# Altium schematic symbol library TG21_TX_Ma tran phimPrjPcb.SCHLIB: 13 symbols
Pins are listed as number, name and electrical type; pins without a type are passive.

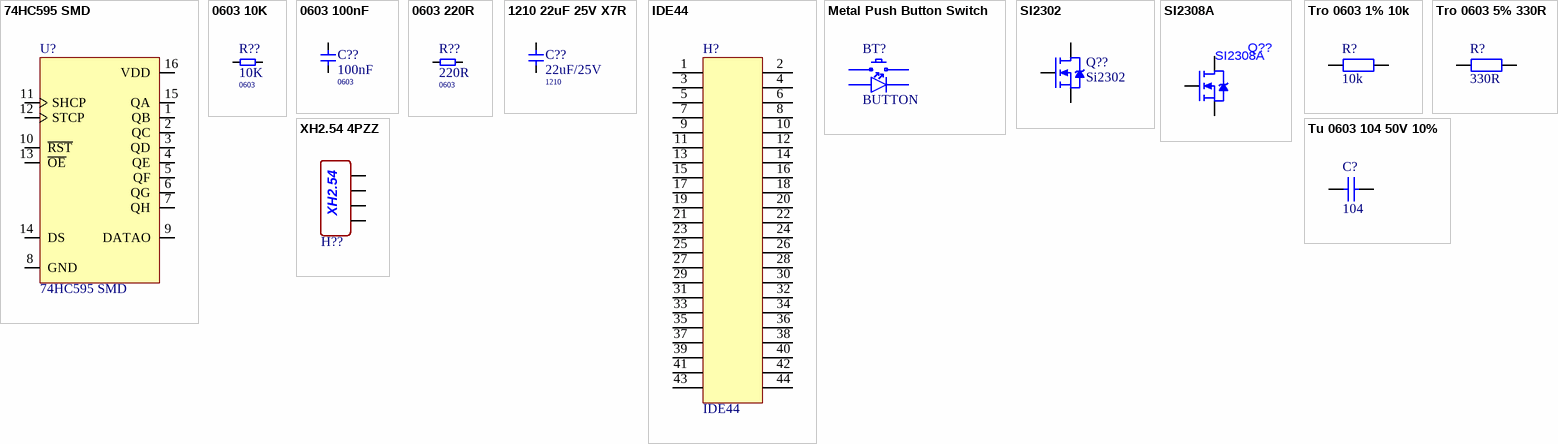
[diagram p0: symbols 74HC595 SMD to XH2.54 4PZZ]

## 74HC595 SMD
designator U?
2V~6V 1 100ns@5V,50pF Serial-to-Serial or Parallel SOP-16 Shift Registers RoHS; Manufacturer: GR; Key Attributes: 8-bit CMOS shift register; Unit: Pcs; Assembly: SMT; ComponentLink1Description: Link; ComponentLink1URL: https://www.lcsc.com/product-detail/C18164493.html?s_z=n_q_x_74hc595&spm=wm.ssy.em.0.tz&lcsc_vid=Q1VfX1ReRFFaUFJSRgIIUV0CFFgIBFJfT1hdVlwEEVkxVlNRT1ddX1RVRFFcVjsOAxUeFF5JWBYZEEoKFBINSQcJGk4%3D; Mfr. Part #: 74HC595; LCSC Part #: C18164493; Package: SOP-16; type: IC; categoty: 74HC595
footprint SOP 16 (SOIC, 16-Leads, Body 9.90x3.91mm, Pitch 1.27mm, IPC Medium Density)
pins: 1 QB, 2 QC, 3 QD, 4 QE, 5 QF, 6 QG, 7 QH, 8 GND, 9 DATAO, 10 ~{RST}, 11 SHCP, 12 STCP, 13 ~{OE}, 14 DS, 15 QA, 16 VDD

## 0603 10K
designator R??, comment 10K  Package: 0603
100mW 10kΩ 75V Thick Film Resistor ±1% ±100ppm/℃ 0603 Chip Resistor - Surface Mount RoHS; Manufacturer: VISHAY; Mfr. Part #: CRCW060310K0FKEA; LCSC Part #: C844918; ComponentLink1Description: Link; ComponentLink1URL: https://www.lcsc.com/product-detail/C844918.html?s_z=n_10K
footprint 0603 Resistors
pins: 1, 2

## 0603 100nF
designator C??, comment 100nF  Package: 0603
100nF ±10% 50V Ceramic Capacitor X7R 0603; Manufacturer: YAGEO; Mfr. Part #: CC0603KRX7R9BB104; LCSC Part #: C14663; ComponentLink1Description: Link; ComponentLink1URL: https://www.lcsc.com/product-detail/C14663.html?s_z=n_0603%2520100nF
footprint 0603 MLCC
pins: 1, 2

## 0603 220R
designator R??, comment 220R  Package: 0603
100mW 220Ω 75V Thick Film Resistor ±1% ±100ppm/℃ 0603 Chip Resistor - Surface Mount RoHS; Mfr. Part #: CRCW0603220RFKEAHP; Manufacturer: VISHAY; LCSC Part #: C313707; ComponentLink1Description: Link; ComponentLink1URL: https://www.lcsc.com/product-detail/C313707.html?s_z=n_0603%2520220R
footprint 0603 MLCC
pins: 1, 2

## 1210 22uF 25V X7R
designator C??, comment 22uF/25V  Package: 1210
22uF ±10% 25V Ceramic Capacitor X7R 1210; Manufacturer: Samsung Electro-Mechanics; Mfr. Part #: CL32B226KAJNNNE; LCSC Part #: C309062; ComponentLink1Description: Link; ComponentLink1URL: https://www.lcsc.com/product-detail/C309062.html?s_z=n_22uF%25201210
footprint 1210 CAPACITOR
pins: 1, 2

## IDE44
designator H?
footprint IDE
pins: 1, 2, 3, 4, 5, 6, 7, 8, 9, 10, 11, 12, 13, 14, 15, 16, 17, 18, 19, 20, 21, 22, 23, 24, 25, 26, 27, 28, 29, 30, 31, 32, 33, 34, 35, 36, 37, 38, 39, 40, 41, 42, 43, 44

## Metal Push Button Switch
designator BT?, comment BUTTON
ComponentLink1Description: Link
footprint Metal Push Button Switch
pins: 1, 2, 3, 4

## SI2302
designator Q??, comment Si2302
N-Channel 20V 2.9A 0.55W Surface Mount SOT-23; Manufacturer: VISHAY; Mfr. Part #: Si2302CDS-T1-GE3; LCSC Part #: C10488; Package: SOT-23; ComponentLink1Description: LCSC Link; ComponentLink1URL: https://www.lcsc.com/product-detail/C10488.html?s_z=n_si2302
footprint SOT23_HVT
pins: 1 G, 2 S, 3 D

## SI2308A
designator Q??
N-Channel 60V 3A 1.25W Surface Mount SOT-23; Manufacturer: UMW; Key Attributes: MOSFET N-CH 60V 3A SOT-23; type: Mosfet; Unit: Pcs; Assembly: SMT; ComponentLink1Description: Link; ComponentLink1URL: https://www.lcsc.com/product-detail/C347491.html?s_z=n_q_si2308&spm=wm.fly.bg.1.xh&lcsc_vid=Q1VfX1ReRFFaUFJSRgIIUV0CFFgIBFJfT1hdVlwEEVkxVlNRT1daUlxeQlReVzsOAxUeFF5JWBYZEEoKFBINSQcJGk4NBhADEA4cHktXQFFADxALGw%3D%3D; Mfr. Part #: SI2308A; LCSC Part #: C347491; Package: SOT-23; Category: SI2308A
footprint SOT23_HVT
pins: 1 G, 2 S, 3 D

## Tro 0603 1% 10k
designator R?, comment 10k
Dán; Don_Vi: Con; So_Chan: 2; Ten_Linh_Kien: Trở 0603 1% 10k; Ma_Hang: MH006333; Chung_Loai: Dán; Kieu_Chan: *
footprint tro smd 0603 (Chip Capacitor, 2-Leads, Body 1,60x0,80mm, IPC Medium Density)
pins: 1, 2

## Tro 0603 5% 330R
designator R?, comment 330R
Dán; Don_Vi: Con; Ma_Hang: MH006910; So_Chan: 2; Ten_Linh_Kien: Trở 0603 5% 330R; Chung_Loai: Dán; Kieu_Chan: *
footprint tro smd 0603 (Chip Capacitor, 2-Leads, Body 1,60x0,80mm, IPC Medium Density)
footprint RES-0603-2
pins: 1, 2

## Tu 0603 104 50V 10%
designator C?, comment 104
Dán; Don_Vi: Con; So_Chan: 2; Ten_Linh_Kien: Tụ 0603 104-100nF 10% 50V; Ma_Hang: MH004568; Chung_Loai: Dán; Kieu_Chan: *
footprint tu 0603 (Chip Capacitor, 2-Leads, Body 1,60x0,80mm, IPC Medium Density)
pins: 1, 2

## XH2.54 4PZZ
designator H??, comment XY-XH2.54-4PZZ  (value not drawn)
XH 1 4P -25℃~+85℃ 2.54mm 4 2A 250V 1x4P Through Hole,P=2.54mm Headers, Male Pins RoHS; Manufacturer: XYECONN; Mfr. Part #: XY-XH2.54-4PZZ; LCSC Part #: C53201003; ComponentLink1Description: LCSC Link; ComponentLink1URL: https://www.lcsc.com/product-detail/C53201003.html?s_z=n_XH2.54%25204P; Package: Through Hole,P=2.54mm; Type: Header; Assembly Type: DIP Assembly; ComponentLink2Description: Datasheet; ComponentLink2URL: https://www.lcsc.com/datasheet/C53201003.pdf
footprint XH2.54 - 4PZZ
pins: 1, 2, 3, 4
text: XH2.54